# EAGLE library part TLS835B2ELVSEXUMA1 (library TLS835B2ELVSEXUMA1)
Voltage Regulator 3.3, 5, 350mA
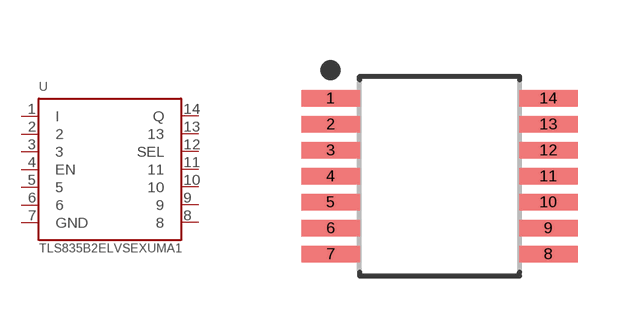
[diagram p0: symbol with the pads of SOP65P600X170-14N; footprint SOP65P600X170-14N]

Designator prefix -

## TLS835B2ELVSEXUMA1  [SOP65P600X170-14N]
1  I
2  2
3  3
4  EN
5  5
6  6
7  GND
8  8
9  9
10  10
11  11
12  SEL
13  13
14  Q

## Footprint SOP65P600X170-14N (pad centres in mm)
14-SOP, 0.65 mm pitch, 6.00 mm span, 4.90 X 3.90 X 1.70 mm body 14-pin SOP package with 0.65 mm pitch, 6.00 mm span with body size 4.90 X 3.90 X 1.70 mm
smd 1.465 x 0.41: 1 -2.725,1.95; 2 -2.725,1.3; 3 -2.725,0.65; 4 -2.725,0; 5 -2.725,-0.65; 6 -2.725,-1.3; 7 -2.725,-1.95; 8 2.725,-1.95; 9 2.725,-1.3; 10 2.725,-0.65; 11 2.725,0; 12 2.725,0.65; 13 2.725,1.3; 14 2.725,1.95